# Altium footprint library SOTFL510P865X150-4N.PcbLib: 1 footprints
Each footprint in its own frame and in the unit in brackets; x right, y up, seen from the top. Pads: shape width x height; smd on the part's side, far side on the other; paste and mask are expansions set on the pad; w line width, h text height; cw(c..) or ccw(c..) is an arc to the next point about the centre after c.
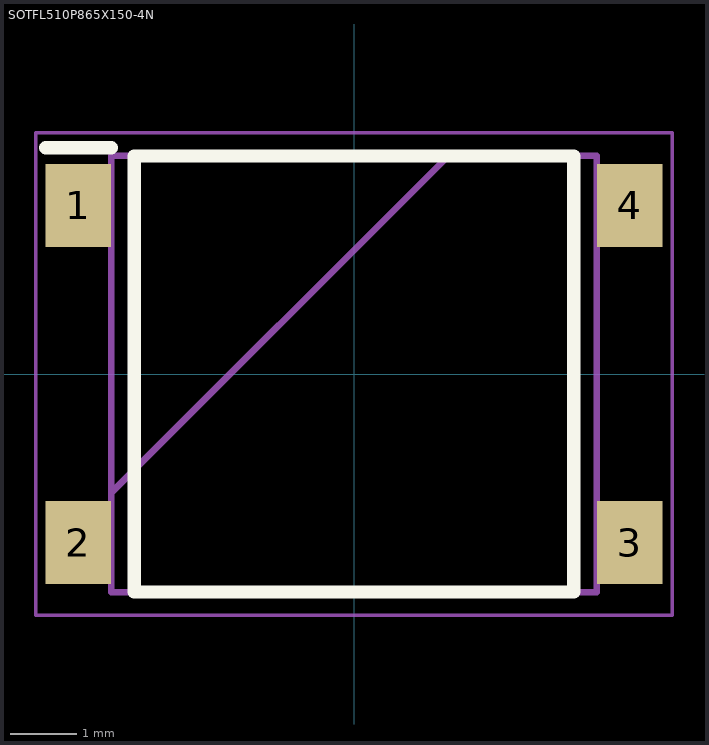
[diagram p0: the footprint, top view; thin cyan lines are the x and y axes]

## SOTFL510P865X150-4N [mm]
pads (4):
  rect 0.99x1.25 smd: 1(-4.17,2.55) 2(-4.17,-2.55) 3(4.17,-2.55) 4(4.17,2.55)
Top Overlay:
  lines w0.2: -4.665,3.425 -3.675,3.425 ; -3.325,-3.3 3.325,-3.3 3.325,3.3 -3.325,3.3 -3.325,-3.3
Mechanical 15:
  lines w0.1: -3.675,-1.8 1.425,3.3 ; -3.675,-3.3 3.675,-3.3 3.675,3.3 -3.675,3.3 -3.675,-3.3
Mechanical 20:
  lines w0.05: -4.815,-3.65 4.815,-3.65 4.815,3.65 -4.815,3.65 -4.815,-3.65